# Altium footprint library General IC.PcbLib: 24 footprints (part 1 of 2)
Each footprint in its own frame and in the unit in brackets; x right, y up, seen from the top. Pads: shape width x height; smd on the part's side, far side on the other; paste and mask are expansions set on the pad; w line width, h text height; cw(c..) or ccw(c..) is an arc to the next point about the centre after c.
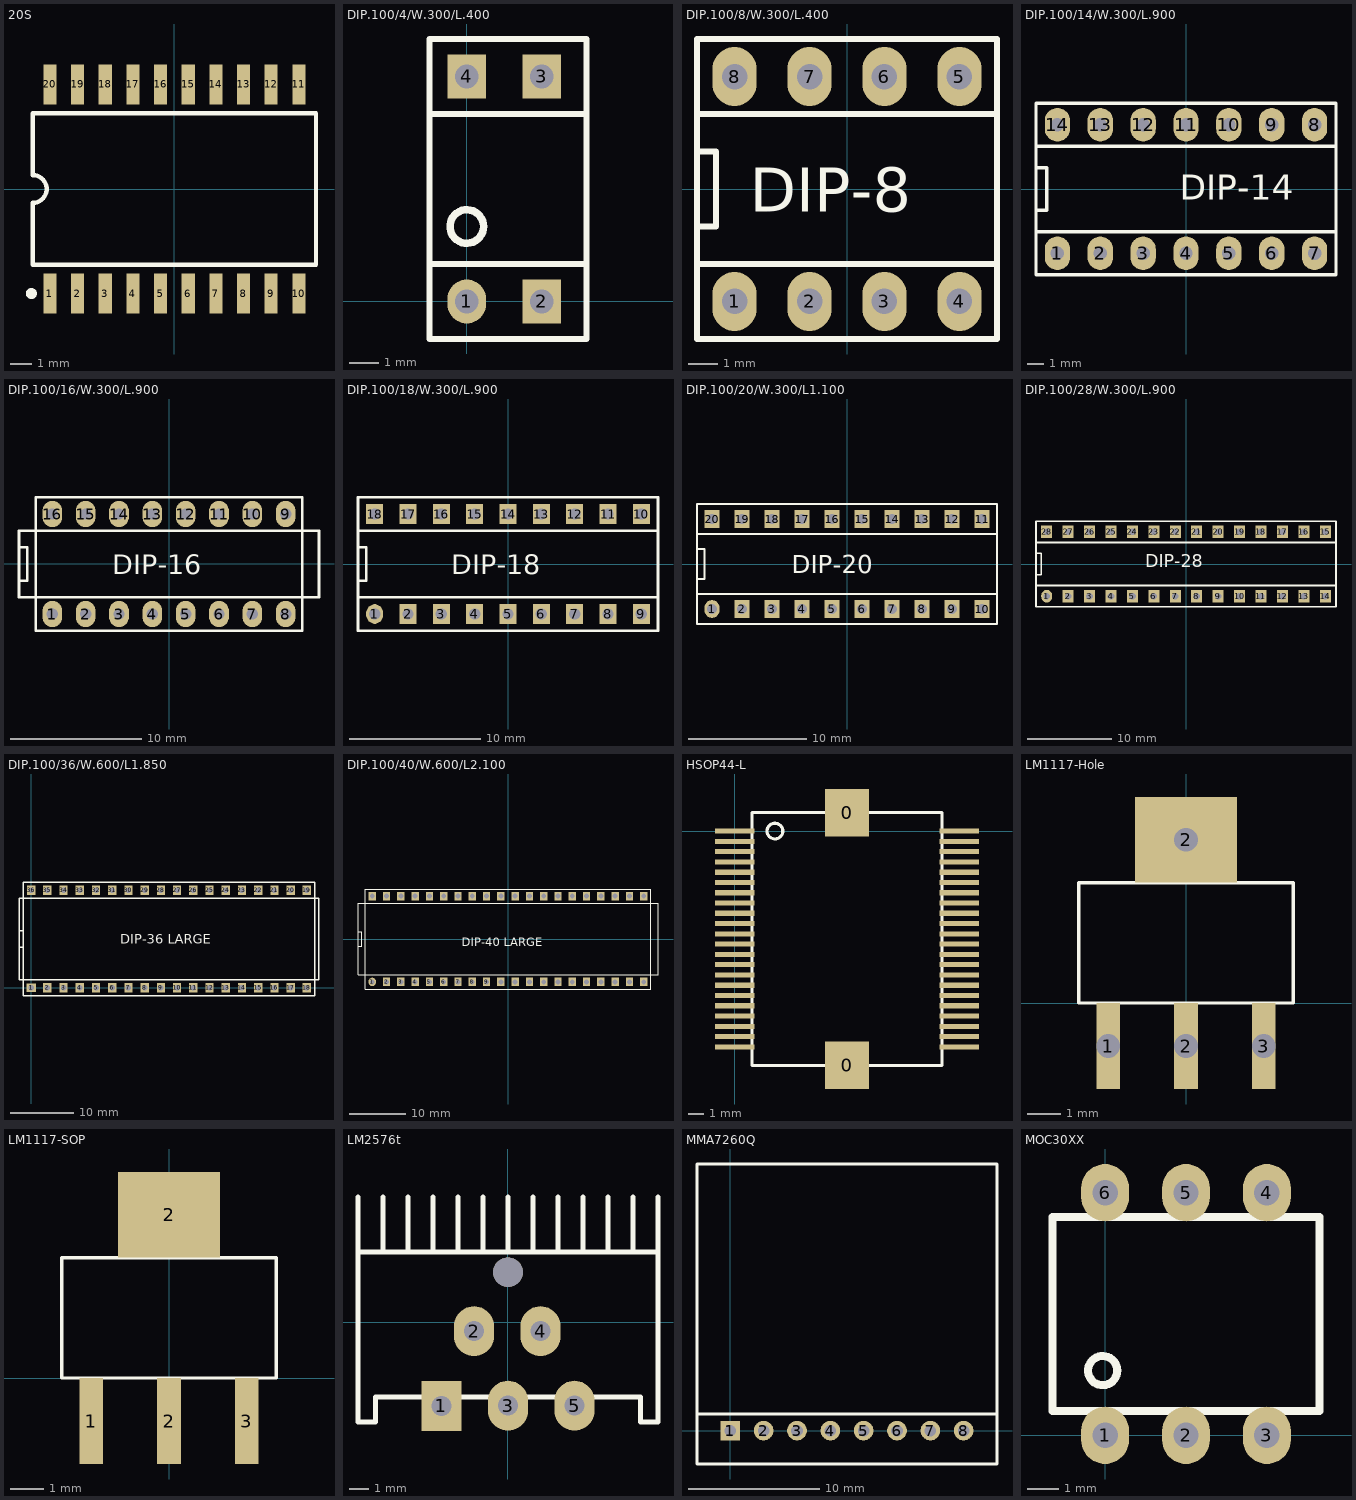
[diagram p0: the footprints below, top view; thin cyan lines are the x and y axes]

## 20S [mm] "Small Outline; 20 Leads; Body Width 7.5 mm; Pitch 1.27 mm"
height 2.67
pads (20):
  rect 0.6x1.85 smd: 1(-5.715,-4.8) 2(-4.445,-4.8) 3(-3.175,-4.8) 4(-1.905,-4.8) 5(-0.635,-4.8) 6(0.635,-4.8) 7(1.905,-4.8) 8(3.175,-4.8) 9(4.445,-4.8) 10(5.715,-4.8) 11(5.715,4.8) 12(4.445,4.8) 13(3.175,4.8) 14(1.905,4.8) 15(0.635,4.8) 16(-0.635,4.8) 17(-1.905,4.8) 18(-3.175,4.8) 19(-4.445,4.8) 20(-5.715,4.8)
Top Overlay:
  circle w0.25: c-6.565,-4.8 r0.125
  lines w0.2: -6.5,-3.475 -6.5,-0.635 ccw(c-6.5,0) -6.5,0.635 -6.5,3.475 6.5,3.475 6.5,-3.475 -6.5,-3.475

## DIP.100/4/W.300/L.400 [mm]
height 5.59
pads (4):
  oval 1.3x1.5 hole 0.8: 1(0,0)
  rect 1.3x1.5 hole 0.8: 2(2.54,0) 3(2.54,7.62) 4(0,7.62)
Top Overlay:
  circle w0.254: c0,2.54 r0.568
  lines w0.203: -1.27,1.27 4.064,1.27 ; -1.27,1.27 -1.27,6.35 ; -1.27,1.27 4.064,1.27 ; -1.27,1.27 -1.27,6.35 ; -1.27,1.27 -1.27,-1.27 4.064,-1.27 4.064,1.524 4.064,6.35 ; -1.27,1.27 -1.27,2.54 -1.27,5.08 -1.27,8.89 4.064,8.89 4.064,6.35 ; -1.27,6.35 4.064,6.35 ; -1.27,6.35 4.064,6.35 ; 4.064,1.27 4.064,6.35
3D body: height 5, standoff 0.4, extent -1.27,-1.27 4.064,8.89

## DIP.100/8/W.300/L.400 [mm]
pads (8):
  oval 1.5x2 hole 0.864: 1(-3.81,-3.81) 2(-1.27,-3.81) 3(1.27,-3.81) 4(3.81,-3.81) 5(3.81,3.81) 6(1.27,3.81) 7(-1.27,3.81) 8(-3.81,3.81)
Top Overlay:
  lines w0.203: -5.08,-2.54 -5.08,-1.27 ; -5.08,-2.54 -5.08,-5.08 5.08,-5.08 5.08,2.54 ; -5.08,-2.54 -5.08,2.54 ; -5.08,-2.54 5.08,-2.54 ; -5.08,-2.54 -5.08,2.54 ; -5.08,-2.54 5.08,-2.54 ; -5.08,-1.27 -5.08,1.27 ; -5.08,-1.27 -4.445,-1.27 ; -5.08,-1.27 -4.445,-1.27 ; -5.08,1.27 -5.08,5.08 5.08,5.08 5.08,2.54 ; -5.08,1.27 -4.445,1.27 ; -5.08,1.27 -4.445,1.27 ; -5.08,2.54 5.08,2.54 ; -5.08,2.54 5.08,2.54 ; -4.445,-1.27 -4.445,1.27 ; -4.445,-1.27 -4.445,1.27 ; 5.08,-2.54 5.08,2.54 ; 5.08,-2.54 5.08,2.54
  text "DIP-8" at -3.302,-0.762 h1.5
3D body: height 4.5, standoff -3.5, extent -5.4,-3.88 5.4,3.88

## DIP.100/14/W.300/L.900 [mm]
height 5.59
pads (14):
  oval 1.5x2 hole 0.8: 1(-7.62,-3.81) 2(-5.08,-3.81) 3(-2.54,-3.81) 4(0,-3.81) 5(2.54,-3.81) 6(5.08,-3.81) 7(7.62,-3.81) 8(7.62,3.81) 9(5.08,3.81) 10(2.54,3.81) 11(0,3.81) 12(-2.54,3.81) 13(-5.08,3.81) 14(-7.62,3.81)
Top Overlay:
  lines w0.203: -8.89,-2.54 8.89,-2.54 ; -8.89,-2.54 8.89,-2.54 ; -8.89,-2.54 -8.89,-1.27 ; -8.89,-2.54 -8.89,-1.27 ; -8.89,-1.27 -8.89,1.27 ; -8.89,-1.27 -8.255,-1.27 ; -8.89,-1.27 -8.89,1.27 ; -8.89,-1.27 -8.255,-1.27 ; -8.89,1.27 -8.89,2.54 ; -8.89,1.27 -8.255,1.27 ; -8.89,1.27 -8.89,2.54 ; -8.89,1.27 -8.255,1.27 ; -8.89,2.54 8.89,2.54 ; -8.89,2.54 8.89,2.54 ; -8.255,-1.27 -8.255,1.27 ; -8.255,-1.27 -8.255,1.27 ; 8.89,-2.54 8.89,2.54 ; -8.89,-5.08 -8.89,5.08 8.89,5.08 8.89,-5.08 -8.89,-5.08
  text "DIP-14" at -0.381,-0.635 h1.5
3D body: height 4.5, standoff -3.5, extent -9.05,-3.88 9.05,3.88

## DIP.100/16/W.300/L.900 [mm]
pads (16):
  oval 1.5x2 hole 0.864: 1(-8.897,-3.812) 2(-6.357,-3.812) 3(-3.817,-3.812) 4(-1.277,-3.812) 5(1.263,-3.812) 6(3.803,-3.812) 7(6.343,-3.812) 8(8.883,-3.812) 9(8.883,3.808) 10(6.343,3.808) 11(3.803,3.808) 12(1.263,3.808) 13(-1.277,3.808) 14(-3.817,3.808) 15(-6.357,3.808) 16(-8.897,3.808)
Top Overlay:
  lines w0.203: -11.437,-2.542 -11.437,-1.272 ; -11.437,-2.542 11.423,-2.542 ; -11.437,-2.542 -11.437,-1.272 ; -11.437,-2.542 11.423,-2.542 ; -11.437,-1.272 -10.802,-1.272 ; -11.437,-1.272 -11.437,1.268 ; -11.437,-1.272 -10.802,-1.272 ; -11.437,-1.272 -11.437,1.268 ; -11.437,1.268 -10.802,1.268 ; -11.437,1.268 -11.437,2.538 ; -11.437,1.268 -10.802,1.268 ; -11.437,1.268 -11.437,2.538 ; -11.437,2.538 11.423,2.538 ; -11.437,2.538 11.423,2.538 ; -10.802,-1.272 -10.802,1.268 ; -10.802,-1.272 -10.802,1.268 ; 11.423,-2.542 11.423,2.538 ; 11.423,-2.542 11.423,2.538 ; -10.167,-5.082 10.153,-5.082 10.153,5.078 -10.167,5.078 -10.167,-5.082
  text "DIP-16" at -4.325,-0.764 h1.5
3D body: height 2.49, standoff -5.08, extent -10,-3.935 10,3.935

## DIP.100/18/W.300/L.900 [mil]
pads (18):
  oval 51x59 hole 34: 1(-400,-150)
  rect 51x59 / inner round 58 / far side rect 51x59 hole 34: 2(-300,-150) 3(-200,-150) 4(-100,-150) 5(0,-150) 6(100,-150) 7(200,-150) 8(300,-150) 9(400,-150) 10(400,150) 11(300,150) 12(200,150) 13(100,150) 14(0,150) 15(-100,150) 16(-200,150) 17(-300,150) 18(-400,150)
Top Overlay:
  lines w8: -450,-100 450,-100 ; -450,-100 -450,100 ; -450,-100 450,-100 ; -450,-100 -450,100 ; -450,-100 -450,-50 ; -450,-100 -450,-200 450,-200 450,-101 450,96.8 450,200 -450,200 -450,50 ; -450,-50 -425,-50 ; -450,-50 -425,-50 ; -450,-50 -450,50 ; -450,50 -425,50 ; -450,50 -425,50 ; -450,100 450,100 ; -450,100 450,100 ; -425,-50 -425,50 ; -425,-50 -425,50 ; 450,-100 450,100 ; 450,-100 450,100
  text "DIP-18" at -170,-30 h59.05
3D body: height 200, standoff -98.03, extent -452.56,-154.92 452.56,154.92

## DIP.100/20/W.300/L1.100 [mil]
pads (20):
  oval 51x59 hole 34: 1(-450,-150)
  rect 51x59 / inner round 58 / far side rect 51x59 hole 34: 2(-350,-150) 3(-250,-150) 4(-150,-150) 5(-50,-150) 6(50,-150) 7(150,-150) 8(250,-150) 9(350,-150) 10(450,-150) 11(450,150) 12(350,150) 13(250,150) 14(150,150) 15(50,150) 16(-50,150) 17(-150,150) 18(-250,150) 19(-350,150) 20(-450,150)
Top Overlay:
  lines w8: -500,-50 -475,-50 -475,50 -500,50 ; 500,-100 500,100 ; 500,-100 -500,-100 500,-100 ; 500,100 -500,100 500,100 ; -500,-200 -499.2,-200 500,-200 500,200 -500,200 -500,-200
  text "DIP-20" at -185,-30 h59.05
3D body: height 177.17, standoff -137.8, extent -503.93,-152.76 503.94,152.77

## DIP.100/28/W.300/L.900 [mm]
height 5.59
pads (28):
  oval 1.3x1.5 hole 0.8: 1(-16.51,-3.81)
  rect 1.3x1.5 hole 0.8: 2(-13.97,-3.81) 3(-11.43,-3.81) 4(-8.89,-3.81) 5(-6.35,-3.81) 6(-3.81,-3.81) 7(-1.27,-3.81) 8(1.27,-3.81) 9(3.81,-3.81) 10(6.35,-3.81) 11(8.89,-3.81) 12(11.43,-3.81) 13(13.97,-3.81) 14(16.51,-3.81) 15(16.51,3.81) 16(13.97,3.81) 17(11.43,3.81) 18(8.89,3.81) 19(6.35,3.81) 20(3.81,3.81) 21(1.27,3.81) 22(-1.27,3.81) 23(-3.81,3.81) 24(-6.35,3.81) 25(-8.89,3.81) 26(-11.43,3.81) 27(-13.97,3.81) 28(-16.51,3.81)
Top Overlay:
  lines w0.203: -17.78,-2.54 17.78,-2.54 ; -17.78,-2.54 17.78,-2.54 ; -17.78,-2.54 -17.78,-1.27 ; -17.78,-2.54 -17.78,-1.27 ; -17.78,-1.27 -17.78,1.27 ; -17.78,-1.27 -17.145,-1.27 ; -17.78,-1.27 -17.78,1.27 ; -17.78,-1.27 -17.145,-1.27 ; -17.78,1.27 -17.78,2.54 ; -17.78,1.27 -17.145,1.27 ; -17.78,1.27 -17.78,2.54 ; -17.78,1.27 -17.145,1.27 ; -17.78,2.54 17.78,2.54 ; -17.78,2.54 17.78,2.54 ; -17.145,-1.27 -17.145,1.27 ; -17.145,-1.27 -17.145,1.27 ; 17.78,-2.54 17.78,2.54 ; -17.78,-5.08 -17.78,5.08 17.78,5.08 17.78,-5.08 -17.78,-5.08
  text "DIP-28" at -4.826,-0.381 h1.5
3D body: height 5.08, standoff -2.49, extent -18,-3.935 18,3.935

## DIP.100/36/W.600/L1.850 [mil]
pads (36):
  rect 59x51 / inner rect 58x58 / far side rect 59x51 hole 34: 1(0,0)
  rect 51x59 / inner round 58 / far side rect 51x59 hole 34: 2(100,0) 3(200,0) 4(300,0) 5(400,0) 6(500,0) 7(600,0) 8(700,0) 9(800,0) 10(900,0) 11(1000,0) 12(1100,0) 13(1200,0) 14(1300,0) 15(1400,0) 16(1500,0) 17(1600,0) 18(1700,0) 19(1700,600) 20(1600,600) 21(1500,600) 22(1400,600) 23(1300,600) 24(1200,600) 25(1100,600) 26(1000,600) 27(900,600) 28(800,600) 29(700,600) 30(600,600) 31(500,600) 32(400,600) 33(300,600) 34(200,600) 35(100,600) 36(0,600)
Top Overlay:
  lines w8: -75,50 1775,50 ; -75,50 -75,250 ; -75,50 1775,50 ; -75,50 -75,250 ; -75,250 -75,350 ; -75,250 -50,250 ; -75,250 -75,350 ; -75,250 -50,250 ; -75,350 -75,550 ; -75,350 -50,350 ; -75,350 -75,550 ; -75,350 -50,350 ; -75,550 1775,550 ; -75,550 1775,550 ; -50,250 -50,350 ; -50,250 -50,350 ; -50,350 -50,-50 1750,-50 1750,650 -50,650 -50,350 ; 1775,50 1775,550 ; 1775,50 1775,550
  text "DIP-36 LARGE" at 550,270 h59.05

## DIP.100/40/W.600/L2.100 [mil]
pads (40):
  oval 51.18x59.06 hole 34: 1(-950,-300)
  rect 51x59 / inner round 58 / far side rect 51x59 hole 34: 2(-850,-300) 3(-750,-300) 4(-650,-300) 5(-550,-300) 6(-450,-300) 7(-350,-300) 8(-250,-300) 9(-150,-300) 10(-50,-300) 11(50,-300) 12(150,-300) 13(250,-300) 14(350,-300) 15(450,-300) 16(550,-300) 17(650,-300) 18(750,-300) 19(850,-300) 20(950,-300) 21(950,300) 22(850,300) 23(750,300) 24(650,300) 25(550,300) 26(450,300) 27(350,300) 28(250,300) 29(150,300) 30(50,300) 31(-50,300) 32(-150,300) 33(-250,300) 34(-350,300) 35(-450,300) 36(-550,300) 37(-650,300) 38(-750,300) 39(-850,300) 40(-950,300)
Top Overlay:
  lines w8: -1050,-250 1050,-250 ; -1050,-250 -1050,-50 ; -1050,-250 1050,-250 ; -1050,-250 -1050,-50 ; -1050,-50 -1050,50 ; -1050,-50 -1025,-50 ; -1050,-50 -1050,50 ; -1050,-50 -1025,-50 ; -1050,50 -1050,250 ; -1050,50 -1025,50 ; -1050,50 -1050,250 ; -1050,50 -1025,50 ; -1050,250 1050,250 ; -1050,250 1050,250 ; -1025,-50 -1025,50 ; -1025,-50 -1025,50 ; 1050,-250 1050,250 ; 1050,-250 1050,250 ; -1000,-350 1000,-350 1000,350 -1000,350 -1000,-350
  text "DIP-40 LARGE" at -325,-50 h59.05
3D body: height 224.41, standoff -101.57, extent -1032.48,-304.92 1032.48,304.93

## HSOP44-L [mm]
pads (46):
  rect 2.8x3 smd: 0(7.1,-14.815) 0(7.1,1.162)
  rect 2.5x0.325 smd: 1(0,0) 2(0,-0.65) 3(0,-1.3) 4(0,-1.95) 5(0,-2.6) 6(0,-3.25) 7(0,-3.9) 8(0,-4.55) 9(0,-5.2) 10(0,-5.85) 11(0,-6.5) 12(0,-7.15) 13(0,-7.8) 14(0,-8.45) 15(0,-9.1) 16(0,-9.75) 17(0,-10.4) 18(0,-11.05) 19(0,-11.7) 20(0,-12.35) 21(0,-13) 22(0,-13.65) 23(14.2,-13.65) 24(14.2,-13) 25(14.2,-12.35) 26(14.2,-11.7) 27(14.2,-11.05) 28(14.2,-10.4) 29(14.2,-9.75) 30(14.2,-9.1) 31(14.2,-8.45) 32(14.2,-7.8) 33(14.2,-7.15) 34(14.2,-6.5) 35(14.2,-5.85) 36(14.2,-5.2) 37(14.2,-4.55) 38(14.2,-3.9) 39(14.2,-3.25) 40(14.2,-2.6) 41(14.2,-1.95) 42(14.2,-1.3) 43(14.2,-0.65) 44(14.2,0)
Top Overlay:
  circle w0.2: c2.54,0 r0.5
  lines w0.2: 1.1,-14.825 1.1,1.175 13.1,1.175 13.1,-14.825 1.1,-14.825

## LM1117-Hole [mm]
pads (4):
  rect 0.7x2.54 hole 0.7: 1(-2.3,-1.27) 2(0,-1.27) 3(2.3,-1.27)
  rect 3x2.54 hole 0.7: 2(0,4.826)
Top Overlay:
  lines w0.1: -3.175,0 -3.175,3.556 3.175,3.556 3.175,0 -3.175,0
3D body: height 1.68, standoff 0, extent -3.25,-1.702 3.25,5.258

## LM1117-SOP [mm]
pads (4):
  rect 0.7x2.54 smd: 1(-2.3,-1.27) 2(0,-1.27) 3(2.3,-1.27)
  rect 3x2.54 smd: 2(0,4.826)
Top Overlay:
  lines w0.1: -3.175,0 3.175,0 3.175,3.556 -3.175,3.556 -3.175,0
3D body: height 1.68, standoff 0, extent -3.25,-1.778 3.25,5.182

## LM2576t [mil]
pads (6):
  rect 80x100 hole 40: 1(-132,-167.09)
  oval 80x100 hole 40: 2(-67,-18) 3(1,-167) 4(66,-18) 5(134,-167)
  round 59.06 hole 59.06: ""(1,100)
Top Overlay:
  lines w10: -299,140 301,140 ; -299,250 -299,-200 -264,-200 -264,-150 266,-150 266,-200 301,-200 301,250 ; -249,140 -249,250 ; -199,140 -199,250 ; -149,140 -149,250 ; -99,140 -99,250 ; -49,140 -49,250 ; 1,140 1,250 ; 51,140 51,250 ; 101,140 101,250 ; 151,140 151,250 ; 201,140 201,250 ; 251,140 251,250
3D body: height 859.05, standoff -85.43, extent -199,-174.91 201,149.5

## MMA7260Q [mm] "Connector; Header; 8 Position"
pads (8):
  rect 1.5x1.5 hole 0.9: 1(0,0)
  round 1.5 hole 0.9: 2(2.54,0) 3(5.08,0) 4(7.62,0) 5(10.16,0) 6(12.7,0) 7(15.24,0) 8(17.78,0)
Top Overlay:
  lines w0.2: -2.54,1.27 20.32,1.27 ; -2.54,-2.54 20.32,-2.54 20.32,20.32 -2.54,20.32 -2.54,-2.54
3D body: height 1, standoff 0, extent -2.54,-2.54 20.32,20.32
3D body: height 2, standoff 1, extent 7.62,7.62 13.97,13.97

## MOC30XX [mm]
pads (6):
  oval 1.5x1.8 hole 0.8: 1(0,0) 2(2.54,0) 3(5.08,0) 4(5.08,7.62) 5(2.54,7.62) 6(0,7.62)
Top Overlay:
  circle w0.254: c-0.077,2.032 r0.458
  lines w0.254: -1.651,0.762 -1.651,6.858 6.731,6.858 6.731,0.762 -1.651,0.762
3D body: height 4.41, standoff -3.18, extent -1.5,-0.19 6.58,7.81